# Altium schematic symbol library devBoard.SchLib: 2 symbols
Pins are listed as number, name and electrical type; pins without a type are passive.

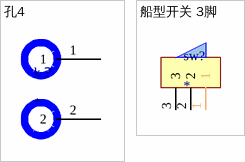
[diagram p0: symbols 孔4 to 船型开关 3脚]

## 孔4
designator k？
footprint 孔4
pins: 1, 2

## 船型开关 3脚
designator sw?
footprint 船型开关 3脚
pins: 1, 2, 3